# Altium schematic symbol library crystal.SchLib: 1 symbol
Pins are listed as number, name and electrical type; pins without a type are passive.

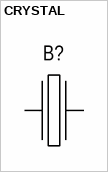
[diagram p0: symbol CRYSTAL]

## CRYSTAL
designator B?
pins: 1, 2
1 alternate drawing of the same symbol